# EAGLE library part SN74LVC2G17 (library SN74LVC)
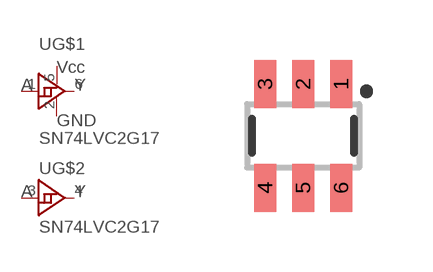
[diagram p0: symbol with the pads of SOT23-6; footprint SOT23-6]

Designator prefix U; gates G$1=GATE_INVERTER_SCHMITT_TRIGGER_PWR G$2=GATE_INVERTER_SCHMITT_TRIGGER

## SN74LVC2G17  [SOT23-6]
1  G$1:A
2  G$1:GND  pas
3  G$2:A
4  G$2:Y
5  G$1:VCC  pwr
6  G$1:Y

## Footprint SOT23-6 (pad centres in mm)
SOT23-6 Specifications: Pin count: 6 Example device(s): MCP4725
smd 0.55 x 1.2: 1 0.95,1.3; 2 0,1.3; 3 -0.95,1.3; 4 -0.95,-1.3; 5 0,-1.3; 6 0.95,-1.3